# EAGLE library part MOLEX_PICOBLADE_6PIN (library molex_picoblade)
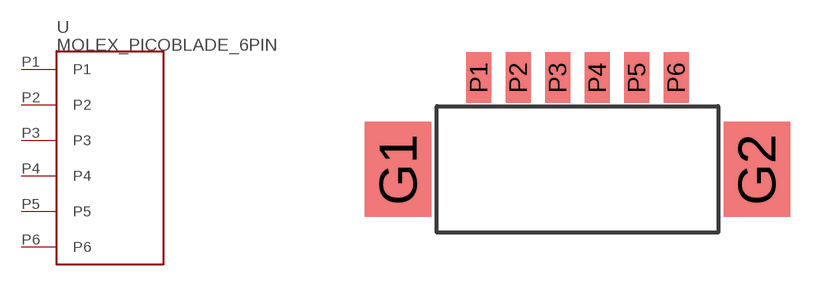
[diagram p0: symbol with the pads of MOLEX_PICOBLADE_6PIN; footprint MOLEX_PICOBLADE_6PIN]

Designator prefix -

## MOLEX_PICOBLADE_6PIN  [MOLEX_PICOBLADE_6PIN]
P1  P1
P2  P2
P3  P3
P4  P4
P5  P5
P6  P6

## Footprint MOLEX_PICOBLADE_6PIN (pad centres in mm)
smd 2.1 x 3: G1 -5.675,0; G2 5.675,0
smd 0.8 x 1.6: P1 -3.125,2.9; P2 -1.875,2.9; P3 -0.625,2.9; P4 0.625,2.9; P5 1.875,2.9; P6 3.125,2.9